# Altium integrated library TI_Logic_Specialty_Logic.IntLib: 2504 symbols (part 10 of 81)
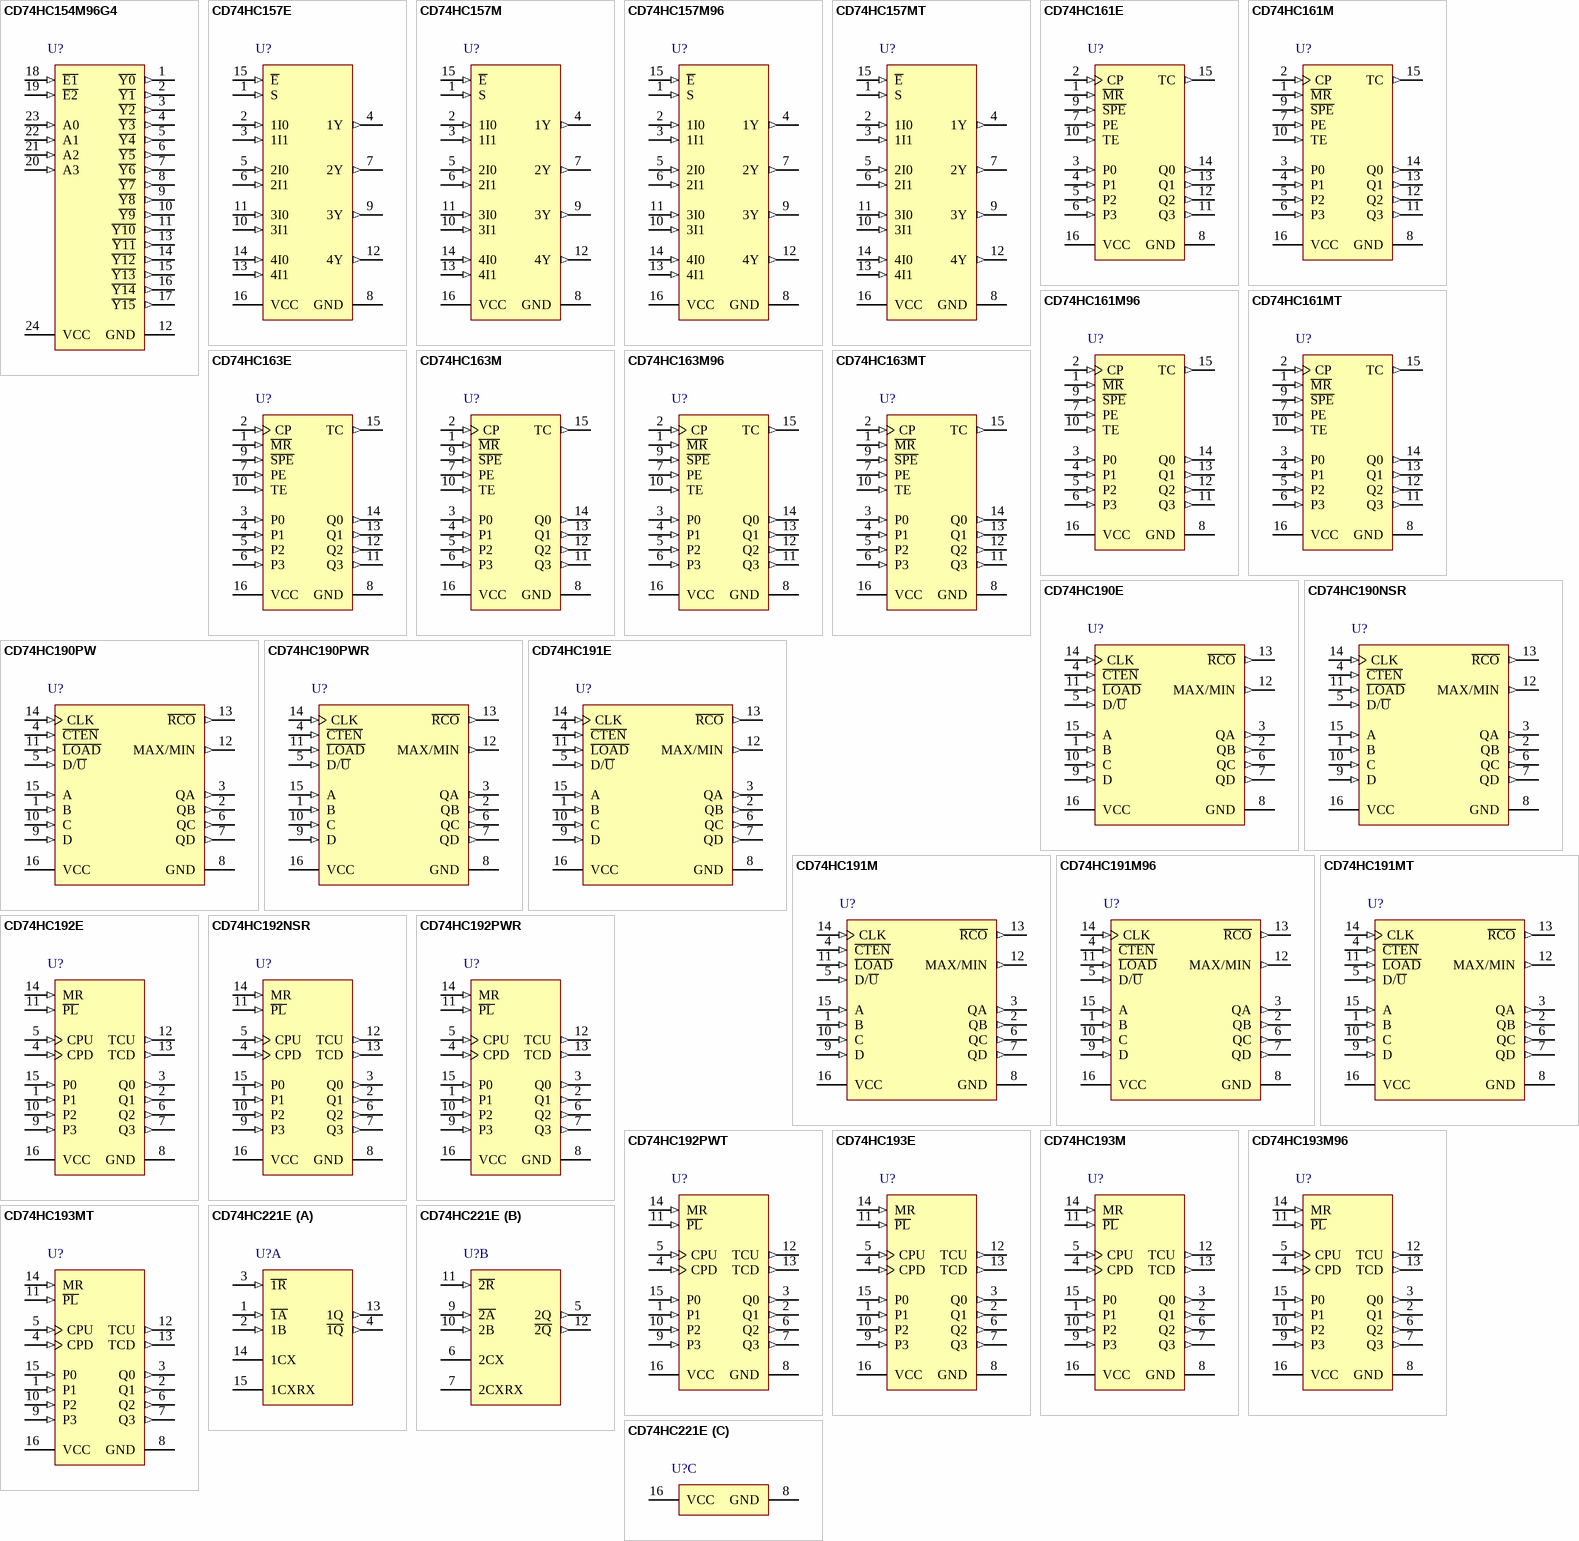
[diagram p113: symbols CD74HC154M96G4 to CD74HC221E]

## CD74HC193M
designator U?
High Speed CMOS Logic Presettable Synchronous 4-Bit Binary Up/Down Counter with Asynchronous Reset, D0016A, TUBE; Generic Part Number: CD74HC193; Manufacturer: Texas Instruments; PartNumber: CD74HC193M; VCC(Min)(V): 2; VCC(Max)(V): 6; Inputs: 1; ICC @ Nom Voltage(Max)(mA): 0.08; Input Type: LVTTL/CMOS; Bits(#): 4; F @ Nom Voltage(Max)(Mhz): 28; Rating: Catalog; Technology Family: HC; Voltage(Nom)(V): 3.3,5; Schmitt Trigger: No; Output Drive (IOL/IOH)(Max)(mA): 5.2/-5.2; tpd @ Nom Voltage(Max)(ns): 46; DatasheetVersion: SCHS163F; PackageReference: D0016A; Supplier 1: Mouser; Supplier Part Number 1: 595-CD74HC193M; Supplier 2: Digi-Key; Supplier Part Number 2: 296-33043-5-ND; Output Type: CMOS; Function: Counter; Operating Temperature Range(C): -55 to 125; Type: Binary; Code_JEDEC: MS-012 variation AC; ComponentLink1Description: Manufacturer URL; ComponentLink1URL: http://www.ti.com/; ComponentLink2Description: Datasheet; ComponentLink2URL: http://www.ti.com/lit/ds/symlink/cd74hc193.pdf; ComponentLink3Description: Package Specification; ComponentLink3URL: http://www.ti.com/lit/ml/mpds178g/mpds178g.pdf
footprint D0016A_N (SOIC, 16-Leads, Body 10x4mm, Pitch 1.27mm, IPC Medium Density)
footprint D0016A_M (SOIC, 16-Leads, Body 10x4mm, Pitch 1.27mm, IPC Low Density)
footprint D0016A_L (SOIC, 16-Leads, Body 10x4mm, Pitch 1.27mm, IPC High Density)
pins: 1 P1 (in), 2 Q1 (out), 3 Q0 (out), 4 CPD (in), 5 CPU (in), 6 Q2 (out), 7 Q3 (out), 8 GND (power), 9 P3 (in), 10 P2 (in), 11 ~{PL} (in), 12 TCU (out), 13 TCD (out), 14 MR (in), 15 P0 (in), 16 VCC (power)

## CD74HC193M96
designator U?
High Speed CMOS Logic Presettable Synchronous 4-Bit Binary Up/Down Counter with Asynchronous Reset, D0016A, LARGE T&R; Generic Part Number: CD74HC193; Manufacturer: Texas Instruments; PartNumber: CD74HC193M96; VCC(Min)(V): 2; VCC(Max)(V): 6; Inputs: 1; ICC @ Nom Voltage(Max)(mA): 0.08; Input Type: LVTTL/CMOS; Bits(#): 4; F @ Nom Voltage(Max)(Mhz): 28; Rating: Catalog; Technology Family: HC; Voltage(Nom)(V): 3.3,5; Schmitt Trigger: No; Output Drive (IOL/IOH)(Max)(mA): 5.2/-5.2; tpd @ Nom Voltage(Max)(ns): 46; DatasheetVersion: SCHS163F; PackageReference: D0016A; Supplier 1: Mouser; Supplier Part Number 1: 595-CD74HC193M96; Supplier 2: Digi-Key; Supplier Part Number 2: CD74HC193M96-ND; Output Type: CMOS; Function: Counter; Operating Temperature Range(C): -55 to 125; Type: Binary; Code_JEDEC: MS-012 variation AC; ComponentLink1Description: Manufacturer URL; ComponentLink1URL: http://www.ti.com/; ComponentLink2Description: Datasheet; ComponentLink2URL: http://www.ti.com/lit/ds/symlink/cd74hc193.pdf; ComponentLink3Description: Package Specification; ComponentLink3URL: http://www.ti.com/lit/ml/mpds178g/mpds178g.pdf
footprint D0016A_N (SOIC, 16-Leads, Body 10x4mm, Pitch 1.27mm, IPC Medium Density)
footprint D0016A_M (SOIC, 16-Leads, Body 10x4mm, Pitch 1.27mm, IPC Low Density)
footprint D0016A_L (SOIC, 16-Leads, Body 10x4mm, Pitch 1.27mm, IPC High Density)
pins: 1 P1 (in), 2 Q1 (out), 3 Q0 (out), 4 CPD (in), 5 CPU (in), 6 Q2 (out), 7 Q3 (out), 8 GND (power), 9 P3 (in), 10 P2 (in), 11 ~{PL} (in), 12 TCU (out), 13 TCD (out), 14 MR (in), 15 P0 (in), 16 VCC (power)

## CD74HC193MT
designator U?
High Speed CMOS Logic Presettable Synchronous 4-Bit Binary Up/Down Counter with Asynchronous Reset, D0016A, SMALL T&R; Generic Part Number: CD74HC193; Manufacturer: Texas Instruments; PartNumber: CD74HC193MT; VCC(Min)(V): 2; VCC(Max)(V): 6; Inputs: 1; ICC @ Nom Voltage(Max)(mA): 0.08; Input Type: LVTTL/CMOS; Bits(#): 4; F @ Nom Voltage(Max)(Mhz): 28; Rating: Catalog; Technology Family: HC; Voltage(Nom)(V): 3.3,5; Schmitt Trigger: No; Output Drive (IOL/IOH)(Max)(mA): 5.2/-5.2; tpd @ Nom Voltage(Max)(ns): 46; DatasheetVersion: SCHS163F; PackageReference: D0016A; Supplier 1: Mouser; Supplier Part Number 1: 595-CD74HC193MT; Supplier 2: Digi-Key; Supplier Part Number 2: CD74HC193MT-ND; Output Type: CMOS; Function: Counter; Operating Temperature Range(C): -55 to 125; Type: Binary; Code_JEDEC: MS-012 variation AC; ComponentLink1Description: Manufacturer URL; ComponentLink1URL: http://www.ti.com/; ComponentLink2Description: Datasheet; ComponentLink2URL: http://www.ti.com/lit/ds/symlink/cd74hc193.pdf; ComponentLink3Description: Package Specification; ComponentLink3URL: http://www.ti.com/lit/ml/mpds178g/mpds178g.pdf
footprint D0016A_N (SOIC, 16-Leads, Body 10x4mm, Pitch 1.27mm, IPC Medium Density)
footprint D0016A_M (SOIC, 16-Leads, Body 10x4mm, Pitch 1.27mm, IPC Low Density)
footprint D0016A_L (SOIC, 16-Leads, Body 10x4mm, Pitch 1.27mm, IPC High Density)
pins: 1 P1 (in), 2 Q1 (out), 3 Q0 (out), 4 CPD (in), 5 CPU (in), 6 Q2 (out), 7 Q3 (out), 8 GND (power), 9 P3 (in), 10 P2 (in), 11 ~{PL} (in), 12 TCU (out), 13 TCD (out), 14 MR (in), 15 P0 (in), 16 VCC (power)

## CD74HC221E
designator U?
High Speed CMOS Logic Dual Monostable Multivibrators with Reset, N0016A, TUBE; Generic Part Number: CD74HC221; Manufacturer: Texas Instruments; PartNumber: CD74HC221E; VCC(Min)(V): 2; VCC(Max)(V): 6; ICC @ Nom Voltage(Max)(mA): 0.08; Input Type: LVTTL/CMOS; F @ Nom Voltage(Max)(Mhz): 70; Rating: Catalog; Technology Family: HC; Voltage(Nom)(V): 3.3,5; Schmitt Trigger: No; Output Drive (IOL/IOH)(Max)(mA): 5.2/-5.2; tpd @ Nom Voltage(Max)(ns): 45; DatasheetVersion: SCHS166F; PackageReference: N0016A; Supplier 1: Mouser; Supplier Part Number 1: 595-CD74HC221E; Supplier 2: Digi-Key; Supplier Part Number 2: 296-9187-5-ND; Output Type: CMOS; Bits(#): 2; Operating Temperature Range(C): -55 to 125; Code_JEDEC: MS-001; ComponentLink1Description: Manufacturer URL; ComponentLink1URL: http://www.ti.com/; ComponentLink2Description: Datasheet; ComponentLink2URL: http://www.ti.com/lit/ds/symlink/cd74hc221.pdf; ComponentLink3Description: Package Specification; ComponentLink3URL: http://www.ti.com/lit/ml/mpdi002c/mpdi002c.pdf
footprint N0016A (DIP, 16-Leads, Body 19.7x6.6mm, Pitch 2.54mm)
part A pins: 1 ~{1A} (in), 2 1B (in), 3 ~{1R} (in), 4 ~{1Q} (out), 13 1Q (out), 14 1CX, 15 1CXRX
part B pins: 5 2Q (out), 6 2CX, 7 2CXRX, 9 ~{2A} (in), 10 2B (in), 11 ~{2R} (in), 12 ~{2Q} (out)
part C pins: 8 GND (power), 16 VCC (power)

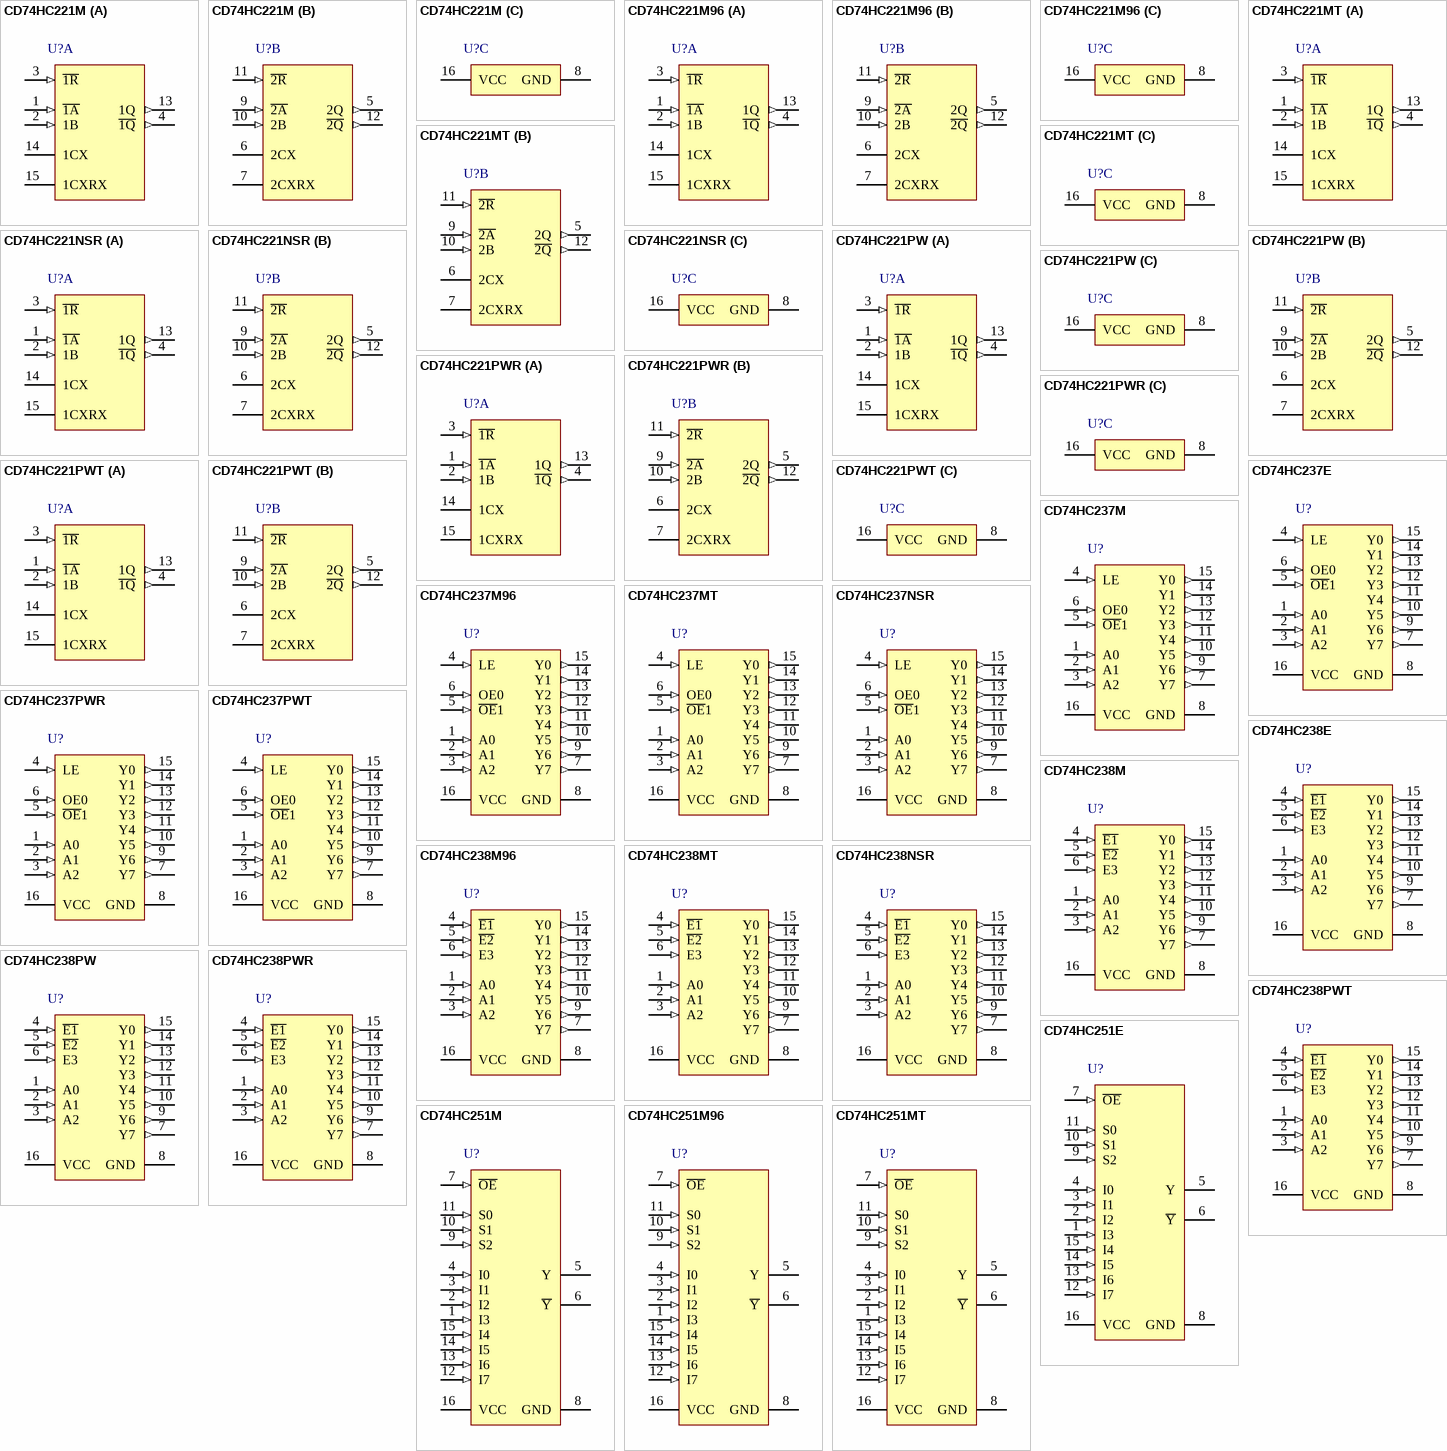
[diagram p12: symbols CD74HC221M to CD74HC251MT]

## CD74HC221M
designator U?
High Speed CMOS Logic Dual Monostable Multivibrators with Reset, D0016A, TUBE; Generic Part Number: CD74HC221; Manufacturer: Texas Instruments; PartNumber: CD74HC221M; VCC(Min)(V): 2; VCC(Max)(V): 6; ICC @ Nom Voltage(Max)(mA): 0.08; Input Type: LVTTL/CMOS; F @ Nom Voltage(Max)(Mhz): 70; Rating: Catalog; Technology Family: HC; Voltage(Nom)(V): 3.3,5; Schmitt Trigger: No; Output Drive (IOL/IOH)(Max)(mA): 5.2/-5.2; tpd @ Nom Voltage(Max)(ns): 45; DatasheetVersion: SCHS166F; PackageReference: D0016A; Supplier 1: Mouser; Supplier Part Number 1: 595-CD74HC221M; Supplier 2: Digi-Key; Supplier Part Number 2: 296-25981-5-ND; Output Type: CMOS; Bits(#): 2; Operating Temperature Range(C): -55 to 125; Code_JEDEC: MS-012 variation AC; ComponentLink1Description: Manufacturer URL; ComponentLink1URL: http://www.ti.com/; ComponentLink2Description: Datasheet; ComponentLink2URL: http://www.ti.com/lit/ds/symlink/cd74hc221.pdf; ComponentLink3Description: Package Specification; ComponentLink3URL: http://www.ti.com/lit/ml/mpds178g/mpds178g.pdf
footprint D0016A_N (SOIC, 16-Leads, Body 10x4mm, Pitch 1.27mm, IPC Medium Density)
footprint D0016A_M (SOIC, 16-Leads, Body 10x4mm, Pitch 1.27mm, IPC Low Density)
footprint D0016A_L (SOIC, 16-Leads, Body 10x4mm, Pitch 1.27mm, IPC High Density)
part A pins: 1 ~{1A} (in), 2 1B (in), 3 ~{1R} (in), 4 ~{1Q} (out), 13 1Q (out), 14 1CX, 15 1CXRX
part B pins: 5 2Q (out), 6 2CX, 7 2CXRX, 9 ~{2A} (in), 10 2B (in), 11 ~{2R} (in), 12 ~{2Q} (out)
part C pins: 8 GND (power), 16 VCC (power)

## CD74HC221M96
designator U?
High Speed CMOS Logic Dual Monostable Multivibrators with Reset, D0016A, LARGE T&R; Generic Part Number: CD74HC221; Manufacturer: Texas Instruments; PartNumber: CD74HC221M96; VCC(Min)(V): 2; VCC(Max)(V): 6; ICC @ Nom Voltage(Max)(mA): 0.08; Input Type: LVTTL/CMOS; F @ Nom Voltage(Max)(Mhz): 70; Rating: Catalog; Technology Family: HC; Voltage(Nom)(V): 3.3,5; Schmitt Trigger: No; Output Drive (IOL/IOH)(Max)(mA): 5.2/-5.2; tpd @ Nom Voltage(Max)(ns): 45; DatasheetVersion: SCHS166F; PackageReference: D0016A; Supplier 1: Mouser; Supplier Part Number 1: 595-CD74HC221M96; Supplier 2: Digi-Key; Supplier Part Number 2: 296-17789-2-ND; Supplier 3: Digi-Key; Supplier Part Number 3: 296-17789-1-ND; Supplier 4: Digi-Key; Supplier Part Number 4: 296-17789-6-ND; Output Type: CMOS; Bits(#): 2; Operating Temperature Range(C): -55 to 125; Code_JEDEC: MS-012 variation AC; ComponentLink1Description: Manufacturer URL; ComponentLink1URL: http://www.ti.com/; ComponentLink2Description: Datasheet; ComponentLink2URL: http://www.ti.com/lit/ds/symlink/cd74hc221.pdf; ComponentLink3Description: Package Specification; ComponentLink3URL: http://www.ti.com/lit/ml/mpds178g/mpds178g.pdf
footprint D0016A_N (SOIC, 16-Leads, Body 10x4mm, Pitch 1.27mm, IPC Medium Density)
footprint D0016A_M (SOIC, 16-Leads, Body 10x4mm, Pitch 1.27mm, IPC Low Density)
footprint D0016A_L (SOIC, 16-Leads, Body 10x4mm, Pitch 1.27mm, IPC High Density)
part A pins: 1 ~{1A} (in), 2 1B (in), 3 ~{1R} (in), 4 ~{1Q} (out), 13 1Q (out), 14 1CX, 15 1CXRX
part B pins: 5 2Q (out), 6 2CX, 7 2CXRX, 9 ~{2A} (in), 10 2B (in), 11 ~{2R} (in), 12 ~{2Q} (out)
part C pins: 8 GND (power), 16 VCC (power)

## CD74HC221MT
designator U?
High Speed CMOS Logic Dual Monostable Multivibrators with Reset, D0016A, SMALL T&R; Generic Part Number: CD74HC221; Manufacturer: Texas Instruments; PartNumber: CD74HC221MT; VCC(Min)(V): 2; VCC(Max)(V): 6; ICC @ Nom Voltage(Max)(mA): 0.08; Input Type: LVTTL/CMOS; F @ Nom Voltage(Max)(Mhz): 70; Rating: Catalog; Technology Family: HC; Voltage(Nom)(V): 3.3,5; Schmitt Trigger: No; Output Drive (IOL/IOH)(Max)(mA): 5.2/-5.2; tpd @ Nom Voltage(Max)(ns): 45; DatasheetVersion: SCHS166F; PackageReference: D0016A; Supplier 1: Mouser; Supplier Part Number 1: 595-CD74HC221MT; Supplier 2: Digi-Key; Supplier Part Number 2: 296-32061-2-ND; Supplier 3: Digi-Key; Supplier Part Number 3: 296-32061-1-ND; Supplier 4: Digi-Key; Supplier Part Number 4: 296-32061-6-ND; Output Type: CMOS; Bits(#): 2; Operating Temperature Range(C): -55 to 125; Code_JEDEC: MS-012 variation AC; ComponentLink1Description: Manufacturer URL; ComponentLink1URL: http://www.ti.com/; ComponentLink2Description: Datasheet; ComponentLink2URL: http://www.ti.com/lit/ds/symlink/cd74hc221.pdf; ComponentLink3Description: Package Specification; ComponentLink3URL: http://www.ti.com/lit/ml/mpds178g/mpds178g.pdf
footprint D0016A_N (SOIC, 16-Leads, Body 10x4mm, Pitch 1.27mm, IPC Medium Density)
footprint D0016A_M (SOIC, 16-Leads, Body 10x4mm, Pitch 1.27mm, IPC Low Density)
footprint D0016A_L (SOIC, 16-Leads, Body 10x4mm, Pitch 1.27mm, IPC High Density)
part A pins: 1 ~{1A} (in), 2 1B (in), 3 ~{1R} (in), 4 ~{1Q} (out), 13 1Q (out), 14 1CX, 15 1CXRX
part B pins: 5 2Q (out), 6 2CX, 7 2CXRX, 9 ~{2A} (in), 10 2B (in), 11 ~{2R} (in), 12 ~{2Q} (out)
part C pins: 8 GND (power), 16 VCC (power)

## CD74HC221NSR
designator U?
High Speed CMOS Logic Dual Monostable Multivibrators with Reset, NS0016A, LARGE T&R; Generic Part Number: CD74HC221; Manufacturer: Texas Instruments; PartNumber: CD74HC221NSR; VCC(Min)(V): 2; VCC(Max)(V): 6; ICC @ Nom Voltage(Max)(mA): 0.08; Input Type: LVTTL/CMOS; F @ Nom Voltage(Max)(Mhz): 70; Rating: Catalog; Technology Family: HC; Voltage(Nom)(V): 3.3,5; Schmitt Trigger: No; Output Drive (IOL/IOH)(Max)(mA): 5.2/-5.2; tpd @ Nom Voltage(Max)(ns): 45; DatasheetVersion: SCHS166F; PackageReference: NS0016A; Supplier 1: Mouser; Supplier Part Number 1: 595-CD74HC221NSR; Supplier 2: Digi-Key; Supplier Part Number 2: 296-31575-2-ND; Supplier 3: Digi-Key; Supplier Part Number 3: 296-31575-1-ND; Supplier 4: Digi-Key; Supplier Part Number 4: 296-31575-6-ND; Output Type: CMOS; Bits(#): 2; Operating Temperature Range(C): -55 to 125; ComponentLink1Description: Manufacturer URL; ComponentLink1URL: http://www.ti.com/; ComponentLink2Description: Datasheet; ComponentLink2URL: http://www.ti.com/lit/ds/symlink/cd74hc221.pdf; ComponentLink3Description: Package Specification; ComponentLink3URL: http://www.ti.com/lit/ml/msop002a/msop002a.pdf
footprint NS0016A_N (SOIC,16-Leads,Body 10.5x5.6mm,Pitch 1.27mm,IPC Medium Density)
footprint NS0016A_M (SOIC,16-Leads,Body 10.5x5.6mm,Pitch 1.27mm,IPC Low Density)
footprint NS0016A_L (SOIC,16-Leads,Body 10.5x5.6mm,Pitch 1.27mm,IPC High Density)
part A pins: 1 ~{1A} (in), 2 1B (in), 3 ~{1R} (in), 4 ~{1Q} (out), 13 1Q (out), 14 1CX, 15 1CXRX
part B pins: 5 2Q (out), 6 2CX, 7 2CXRX, 9 ~{2A} (in), 10 2B (in), 11 ~{2R} (in), 12 ~{2Q} (out)
part C pins: 8 GND (power), 16 VCC (power)

## CD74HC221PW
designator U?
High Speed CMOS Logic Dual Monostable Multivibrators with Reset, PW0016A, TUBE; Generic Part Number: CD74HC221; Manufacturer: Texas Instruments; PartNumber: CD74HC221PW; VCC(Min)(V): 2; VCC(Max)(V): 6; ICC @ Nom Voltage(Max)(mA): 0.08; Input Type: LVTTL/CMOS; F @ Nom Voltage(Max)(Mhz): 70; Rating: Catalog; Technology Family: HC; Voltage(Nom)(V): 3.3,5; Schmitt Trigger: No; Output Drive (IOL/IOH)(Max)(mA): 5.2/-5.2; tpd @ Nom Voltage(Max)(ns): 45; DatasheetVersion: SCHS166F; PackageReference: PW0016A; Supplier 1: Mouser; Supplier Part Number 1: 595-CD74HC221PW; Supplier 2: Digi-Key; Supplier Part Number 2: 296-33049-5-ND; Output Type: CMOS; Bits(#): 2; Operating Temperature Range(C): -55 to 125; Code_JEDEC: MO-153; ComponentLink1Description: Manufacturer URL; ComponentLink1URL: http://www.ti.com/; ComponentLink2Description: Datasheet; ComponentLink2URL: http://www.ti.com/lit/ds/symlink/cd74hc221.pdf; ComponentLink3Description: Package Specification; ComponentLink3URL: http://www.ti.com/lit/ml/mpds361/mpds361.pdf
footprint PW0016A_N (SOP, 16-Leads, Body 5.1x4.5mm, Pitch 0.65mm, IPC Medium Density)
footprint PW0016A_M (SOP, 16-Leads, Body 5.1x4.5mm, Pitch 0.65mm, IPC Low Density)
footprint PW0016A_L (SOP, 16-Leads, Body 5.1x4.5mm, Pitch 0.65mm, IPC High Density)
part A pins: 1 ~{1A} (in), 2 1B (in), 3 ~{1R} (in), 4 ~{1Q} (out), 13 1Q (out), 14 1CX, 15 1CXRX
part B pins: 5 2Q (out), 6 2CX, 7 2CXRX, 9 ~{2A} (in), 10 2B (in), 11 ~{2R} (in), 12 ~{2Q} (out)
part C pins: 8 GND (power), 16 VCC (power)

## CD74HC221PWR
designator U?
High Speed CMOS Logic Dual Monostable Multivibrators with Reset, PW0016A, LARGE T&R; Generic Part Number: CD74HC221; Manufacturer: Texas Instruments; PartNumber: CD74HC221PWR; VCC(Min)(V): 2; VCC(Max)(V): 6; ICC @ Nom Voltage(Max)(mA): 0.08; Input Type: LVTTL/CMOS; F @ Nom Voltage(Max)(Mhz): 70; Rating: Catalog; Technology Family: HC; Voltage(Nom)(V): 3.3,5; Schmitt Trigger: No; Output Drive (IOL/IOH)(Max)(mA): 5.2/-5.2; tpd @ Nom Voltage(Max)(ns): 45; DatasheetVersion: SCHS166F; PackageReference: PW0016A; Supplier 1: Mouser; Supplier Part Number 1: 595-CD74HC221PWR; Supplier 2: Digi-Key; Supplier Part Number 2: 296-12796-2-ND; Supplier 3: Digi-Key; Supplier Part Number 3: 296-12796-1-ND; Supplier 4: Digi-Key; Supplier Part Number 4: 296-12796-6-ND; Output Type: CMOS; Bits(#): 2; Operating Temperature Range(C): -55 to 125; Code_JEDEC: MO-153; ComponentLink1Description: Manufacturer URL; ComponentLink1URL: http://www.ti.com/; ComponentLink2Description: Datasheet; ComponentLink2URL: http://www.ti.com/lit/ds/symlink/cd74hc221.pdf; ComponentLink3Description: Package Specification; ComponentLink3URL: http://www.ti.com/lit/ml/mpds361/mpds361.pdf
footprint PW0016A_N (SOP, 16-Leads, Body 5.1x4.5mm, Pitch 0.65mm, IPC Medium Density)
footprint PW0016A_M (SOP, 16-Leads, Body 5.1x4.5mm, Pitch 0.65mm, IPC Low Density)
footprint PW0016A_L (SOP, 16-Leads, Body 5.1x4.5mm, Pitch 0.65mm, IPC High Density)
part A pins: 1 ~{1A} (in), 2 1B (in), 3 ~{1R} (in), 4 ~{1Q} (out), 13 1Q (out), 14 1CX, 15 1CXRX
part B pins: 5 2Q (out), 6 2CX, 7 2CXRX, 9 ~{2A} (in), 10 2B (in), 11 ~{2R} (in), 12 ~{2Q} (out)
part C pins: 8 GND (power), 16 VCC (power)

## CD74HC221PWT
designator U?
High Speed CMOS Logic Dual Monostable Multivibrators with Reset, PW0016A, SMALL T&R; Generic Part Number: CD74HC221; Manufacturer: Texas Instruments; PartNumber: CD74HC221PWT; VCC(Min)(V): 2; VCC(Max)(V): 6; ICC @ Nom Voltage(Max)(mA): 0.08; Input Type: LVTTL/CMOS; F @ Nom Voltage(Max)(Mhz): 70; Rating: Catalog; Technology Family: HC; Voltage(Nom)(V): 3.3,5; Schmitt Trigger: No; Output Drive (IOL/IOH)(Max)(mA): 5.2/-5.2; tpd @ Nom Voltage(Max)(ns): 45; DatasheetVersion: SCHS166F; PackageReference: PW0016A; Supplier 1: Mouser; Supplier Part Number 1: 595-CD74HC221PWT; Supplier 2: Digi-Key; Supplier Part Number 2: 296-28645-2-ND; Supplier 3: Digi-Key; Supplier Part Number 3: 296-28645-1-ND; Supplier 4: Digi-Key; Supplier Part Number 4: 296-28645-6-ND; Output Type: CMOS; Bits(#): 2; Operating Temperature Range(C): -55 to 125; Code_JEDEC: MO-153; ComponentLink1Description: Manufacturer URL; ComponentLink1URL: http://www.ti.com/; ComponentLink2Description: Datasheet; ComponentLink2URL: http://www.ti.com/lit/ds/symlink/cd74hc221.pdf; ComponentLink3Description: Package Specification; ComponentLink3URL: http://www.ti.com/lit/ml/mpds361/mpds361.pdf
footprint PW0016A_N (SOP, 16-Leads, Body 5.1x4.5mm, Pitch 0.65mm, IPC Medium Density)
footprint PW0016A_M (SOP, 16-Leads, Body 5.1x4.5mm, Pitch 0.65mm, IPC Low Density)
footprint PW0016A_L (SOP, 16-Leads, Body 5.1x4.5mm, Pitch 0.65mm, IPC High Density)
part A pins: 1 ~{1A} (in), 2 1B (in), 3 ~{1R} (in), 4 ~{1Q} (out), 13 1Q (out), 14 1CX, 15 1CXRX
part B pins: 5 2Q (out), 6 2CX, 7 2CXRX, 9 ~{2A} (in), 10 2B (in), 11 ~{2R} (in), 12 ~{2Q} (out)
part C pins: 8 GND (power), 16 VCC (power)

## CD74HC237E
designator U?
High Speed CMOS Logic 3-to-8 Line Decoder Demutiplexer with Address Latches, N0016A, TUBE; Generic Part Number: CD74HC237; Manufacturer: Texas Instruments; PartNumber: CD74HC237E; VCC(Min)(V): 2; VCC(Max)(V): 6; Function: Decoder/Demultiplexer; ICC @ Nom Voltage(Max)(mA): 0.08; Input Type: LVTTL/CMOS; Bits(#): 8; F @ Nom Voltage(Max)(Mhz): 28; Configuration: 3：8; Channels(#): 1; Rating: Catalog; Technology Family: HC; Voltage(Nom)(V): 3.3,5; Schmitt Trigger: No; Output Drive (IOL/IOH)(Max)(mA): 5.2/-5.2; tpd @ Nom Voltage(Max)(ns): 36; DatasheetVersion: SCHS146F; PackageReference: N0016A; Supplier 1: Mouser; Supplier Part Number 1: 595-CD74HC237E; Supplier 2: Digi-Key; Supplier Part Number 2: CD74HC237E-ND; Output Type: CMOS; Operating Temperature Range(C): -55 to 125; Type: Standard; Code_JEDEC: MS-001; ComponentLink1Description: Manufacturer URL; ComponentLink1URL: http://www.ti.com/; ComponentLink2Description: Datasheet; ComponentLink2URL: http://www.ti.com/lit/ds/symlink/cd74hc237.pdf; ComponentLink3Description: Package Specification; ComponentLink3URL: http://www.ti.com/lit/ml/mpdi002c/mpdi002c.pdf
footprint N0016A (DIP, 16-Leads, Body 19.7x6.6mm, Pitch 2.54mm)
pins: 1 A0 (in), 2 A1 (in), 3 A2 (in), 4 LE (in), 5 ~{OE}1 (in), 6 OE0 (in), 7 Y7 (out), 8 GND (power), 9 Y6 (out), 10 Y5 (out), 11 Y4 (out), 12 Y3 (out), 13 Y2 (out), 14 Y1 (out), 15 Y0 (out), 16 VCC (power)

## CD74HC237M
designator U?
High Speed CMOS Logic 3-to-8 Line Decoder Demutiplexer with Address Latches, D0016A, TUBE; Generic Part Number: CD74HC237; Manufacturer: Texas Instruments; PartNumber: CD74HC237M; VCC(Min)(V): 2; VCC(Max)(V): 6; Function: Decoder/Demultiplexer; ICC @ Nom Voltage(Max)(mA): 0.08; Input Type: LVTTL/CMOS; Bits(#): 8; F @ Nom Voltage(Max)(Mhz): 28; Configuration: 3：8; Channels(#): 1; Rating: Catalog; Technology Family: HC; Voltage(Nom)(V): 3.3,5; Schmitt Trigger: No; Output Drive (IOL/IOH)(Max)(mA): 5.2/-5.2; tpd @ Nom Voltage(Max)(ns): 36; DatasheetVersion: SCHS146F; PackageReference: D0016A; Supplier 1: Mouser; Supplier Part Number 1: 595-CD74HC237M; Supplier 2: Digi-Key; Supplier Part Number 2: 296-25982-5-ND; Output Type: CMOS; Operating Temperature Range(C): -55 to 125; Type: Standard; Code_JEDEC: MS-012 variation AC; ComponentLink1Description: Manufacturer URL; ComponentLink1URL: http://www.ti.com/; ComponentLink2Description: Datasheet; ComponentLink2URL: http://www.ti.com/lit/ds/symlink/cd74hc237.pdf; ComponentLink3Description: Package Specification; ComponentLink3URL: http://www.ti.com/lit/ml/mpds178g/mpds178g.pdf
footprint D0016A_N (SOIC, 16-Leads, Body 10x4mm, Pitch 1.27mm, IPC Medium Density)
footprint D0016A_M (SOIC, 16-Leads, Body 10x4mm, Pitch 1.27mm, IPC Low Density)
footprint D0016A_L (SOIC, 16-Leads, Body 10x4mm, Pitch 1.27mm, IPC High Density)
pins: 1 A0 (in), 2 A1 (in), 3 A2 (in), 4 LE (in), 5 ~{OE}1 (in), 6 OE0 (in), 7 Y7 (out), 8 GND (power), 9 Y6 (out), 10 Y5 (out), 11 Y4 (out), 12 Y3 (out), 13 Y2 (out), 14 Y1 (out), 15 Y0 (out), 16 VCC (power)

## CD74HC237M96
designator U?
High Speed CMOS Logic 3-to-8 Line Decoder Demutiplexer with Address Latches, D0016A, LARGE T&R; Generic Part Number: CD74HC237; Manufacturer: Texas Instruments; PartNumber: CD74HC237M96; VCC(Min)(V): 2; VCC(Max)(V): 6; Function: Decoder/Demultiplexer; ICC @ Nom Voltage(Max)(mA): 0.08; Input Type: LVTTL/CMOS; Bits(#): 8; F @ Nom Voltage(Max)(Mhz): 28; Configuration: 3：8; Channels(#): 1; Rating: Catalog; Technology Family: HC; Voltage(Nom)(V): 3.3,5; Schmitt Trigger: No; Output Drive (IOL/IOH)(Max)(mA): 5.2/-5.2; tpd @ Nom Voltage(Max)(ns): 36; DatasheetVersion: SCHS146F; PackageReference: D0016A; Supplier 1: Mouser; Supplier Part Number 1: 595-CD74HC237M96; Supplier 2: Digi-Key; Supplier Part Number 2: 296-12797-2-ND; Supplier 3: Digi-Key; Supplier Part Number 3: 296-12797-1-ND; Supplier 4: Digi-Key; Supplier Part Number 4: 296-12797-6-ND; Output Type: CMOS; Operating Temperature Range(C): -55 to 125; Type: Standard; Code_JEDEC: MS-012 variation AC; ComponentLink1Description: Manufacturer URL; ComponentLink1URL: http://www.ti.com/; ComponentLink2Description: Datasheet; ComponentLink2URL: http://www.ti.com/lit/ds/symlink/cd74hc237.pdf; ComponentLink3Description: Package Specification; ComponentLink3URL: http://www.ti.com/lit/ml/mpds178g/mpds178g.pdf
footprint D0016A_N (SOIC, 16-Leads, Body 10x4mm, Pitch 1.27mm, IPC Medium Density)
footprint D0016A_M (SOIC, 16-Leads, Body 10x4mm, Pitch 1.27mm, IPC Low Density)
footprint D0016A_L (SOIC, 16-Leads, Body 10x4mm, Pitch 1.27mm, IPC High Density)
pins: 1 A0 (in), 2 A1 (in), 3 A2 (in), 4 LE (in), 5 ~{OE}1 (in), 6 OE0 (in), 7 Y7 (out), 8 GND (power), 9 Y6 (out), 10 Y5 (out), 11 Y4 (out), 12 Y3 (out), 13 Y2 (out), 14 Y1 (out), 15 Y0 (out), 16 VCC (power)

## CD74HC237MT
designator U?
High Speed CMOS Logic 3-to-8 Line Decoder Demutiplexer with Address Latches, D0016A, SMALL T&R; Generic Part Number: CD74HC237; Manufacturer: Texas Instruments; PartNumber: CD74HC237MT; VCC(Min)(V): 2; VCC(Max)(V): 6; Function: Decoder/Demultiplexer; ICC @ Nom Voltage(Max)(mA): 0.08; Input Type: LVTTL/CMOS; Bits(#): 8; F @ Nom Voltage(Max)(Mhz): 28; Configuration: 3：8; Channels(#): 1; Rating: Catalog; Technology Family: HC; Voltage(Nom)(V): 3.3,5; Schmitt Trigger: No; Output Drive (IOL/IOH)(Max)(mA): 5.2/-5.2; tpd @ Nom Voltage(Max)(ns): 36; DatasheetVersion: SCHS146F; PackageReference: D0016A; Supplier 1: Mouser; Supplier Part Number 1: 595-CD74HC237MT; Supplier 2: Digi-Key; Supplier Part Number 2: CD74HC237MT-ND; Output Type: CMOS; Operating Temperature Range(C): -55 to 125; Type: Standard; Code_JEDEC: MS-012 variation AC; ComponentLink1Description: Manufacturer URL; ComponentLink1URL: http://www.ti.com/; ComponentLink2Description: Datasheet; ComponentLink2URL: http://www.ti.com/lit/ds/symlink/cd74hc237.pdf; ComponentLink3Description: Package Specification; ComponentLink3URL: http://www.ti.com/lit/ml/mpds178g/mpds178g.pdf
footprint D0016A_N (SOIC, 16-Leads, Body 10x4mm, Pitch 1.27mm, IPC Medium Density)
footprint D0016A_M (SOIC, 16-Leads, Body 10x4mm, Pitch 1.27mm, IPC Low Density)
footprint D0016A_L (SOIC, 16-Leads, Body 10x4mm, Pitch 1.27mm, IPC High Density)
pins: 1 A0 (in), 2 A1 (in), 3 A2 (in), 4 LE (in), 5 ~{OE}1 (in), 6 OE0 (in), 7 Y7 (out), 8 GND (power), 9 Y6 (out), 10 Y5 (out), 11 Y4 (out), 12 Y3 (out), 13 Y2 (out), 14 Y1 (out), 15 Y0 (out), 16 VCC (power)

## CD74HC237NSR
designator U?
High Speed CMOS Logic 3-to-8 Line Decoder Demutiplexer with Address Latches, NS0016A, LARGE T&R; Generic Part Number: CD74HC237; Manufacturer: Texas Instruments; PartNumber: CD74HC237NSR; VCC(Min)(V): 2; VCC(Max)(V): 6; Function: Decoder/Demultiplexer; ICC @ Nom Voltage(Max)(mA): 0.08; Input Type: LVTTL/CMOS; Bits(#): 8; F @ Nom Voltage(Max)(Mhz): 28; Configuration: 3：8; Channels(#): 1; Rating: Catalog; Technology Family: HC; Voltage(Nom)(V): 3.3,5; Schmitt Trigger: No; Output Drive (IOL/IOH)(Max)(mA): 5.2/-5.2; tpd @ Nom Voltage(Max)(ns): 36; DatasheetVersion: SCHS146F; PackageReference: NS0016A; Supplier 1: Mouser; Supplier Part Number 1: 595-CD74HC237NSR; Supplier 2: Digi-Key; Supplier Part Number 2: 296-28791-2-ND; Supplier 3: Digi-Key; Supplier Part Number 3: 296-28791-1-ND; Supplier 4: Digi-Key; Supplier Part Number 4: 296-28791-6-ND; Output Type: CMOS; Operating Temperature Range(C): -55 to 125; Type: Standard; ComponentLink1Description: Manufacturer URL; ComponentLink1URL: http://www.ti.com/; ComponentLink2Description: Datasheet; ComponentLink2URL: http://www.ti.com/lit/ds/symlink/cd74hc237.pdf; ComponentLink3Description: Package Specification; ComponentLink3URL: http://www.ti.com/lit/ml/msop002a/msop002a.pdf
footprint NS0016A_N (SOIC,16-Leads,Body 10.5x5.6mm,Pitch 1.27mm,IPC Medium Density)
footprint NS0016A_M (SOIC,16-Leads,Body 10.5x5.6mm,Pitch 1.27mm,IPC Low Density)
footprint NS0016A_L (SOIC,16-Leads,Body 10.5x5.6mm,Pitch 1.27mm,IPC High Density)
pins: 1 A0 (in), 2 A1 (in), 3 A2 (in), 4 LE (in), 5 ~{OE}1 (in), 6 OE0 (in), 7 Y7 (out), 8 GND (power), 9 Y6 (out), 10 Y5 (out), 11 Y4 (out), 12 Y3 (out), 13 Y2 (out), 14 Y1 (out), 15 Y0 (out), 16 VCC (power)

## CD74HC237PWR
designator U?
High Speed CMOS Logic 3-to-8 Line Decoder Demutiplexer with Address Latches, PW0016A, LARGE T&R; Generic Part Number: CD74HC237; Manufacturer: Texas Instruments; PartNumber: CD74HC237PWR; VCC(Min)(V): 2; VCC(Max)(V): 6; Function: Decoder/Demultiplexer; ICC @ Nom Voltage(Max)(mA): 0.08; Input Type: LVTTL/CMOS; Bits(#): 8; F @ Nom Voltage(Max)(Mhz): 28; Configuration: 3：8; Channels(#): 1; Rating: Catalog; Technology Family: HC; Voltage(Nom)(V): 3.3,5; Schmitt Trigger: No; Output Drive (IOL/IOH)(Max)(mA): 5.2/-5.2; tpd @ Nom Voltage(Max)(ns): 36; DatasheetVersion: SCHS146F; PackageReference: PW0016A; Supplier 1: Mouser; Supplier Part Number 1: 595-CD74HC237PWR; Supplier 2: Digi-Key; Supplier Part Number 2: 296-13813-2-ND; Supplier 3: Digi-Key; Supplier Part Number 3: 296-13813-1-ND; Supplier 4: Digi-Key; Supplier Part Number 4: 296-13813-6-ND; Output Type: CMOS; Operating Temperature Range(C): -55 to 125; Type: Standard; Code_JEDEC: MO-153; ComponentLink1Description: Manufacturer URL; ComponentLink1URL: http://www.ti.com/; ComponentLink2Description: Datasheet; ComponentLink2URL: http://www.ti.com/lit/ds/symlink/cd74hc237.pdf; ComponentLink3Description: Package Specification; ComponentLink3URL: http://www.ti.com/lit/ml/mpds361/mpds361.pdf
footprint PW0016A_N (SOP, 16-Leads, Body 5.1x4.5mm, Pitch 0.65mm, IPC Medium Density)
footprint PW0016A_M (SOP, 16-Leads, Body 5.1x4.5mm, Pitch 0.65mm, IPC Low Density)
footprint PW0016A_L (SOP, 16-Leads, Body 5.1x4.5mm, Pitch 0.65mm, IPC High Density)
pins: 1 A0 (in), 2 A1 (in), 3 A2 (in), 4 LE (in), 5 ~{OE}1 (in), 6 OE0 (in), 7 Y7 (out), 8 GND (power), 9 Y6 (out), 10 Y5 (out), 11 Y4 (out), 12 Y3 (out), 13 Y2 (out), 14 Y1 (out), 15 Y0 (out), 16 VCC (power)

## CD74HC237PWT
designator U?
High Speed CMOS Logic 3-to-8 Line Decoder Demutiplexer with Address Latches, PW0016A, SMALL T&R; Generic Part Number: CD74HC237; Manufacturer: Texas Instruments; PartNumber: CD74HC237PWT; VCC(Min)(V): 2; VCC(Max)(V): 6; Function: Decoder/Demultiplexer; ICC @ Nom Voltage(Max)(mA): 0.08; Input Type: LVTTL/CMOS; Bits(#): 8; F @ Nom Voltage(Max)(Mhz): 28; Configuration: 3：8; Channels(#): 1; Rating: Catalog; Technology Family: HC; Voltage(Nom)(V): 3.3,5; Schmitt Trigger: No; Output Drive (IOL/IOH)(Max)(mA): 5.2/-5.2; tpd @ Nom Voltage(Max)(ns): 36; DatasheetVersion: SCHS146F; PackageReference: PW0016A; Supplier 1: Mouser; Supplier Part Number 1: 595-CD74HC237PWT; Supplier 2: Digi-Key; Supplier Part Number 2: CD74HC237PWT-ND; Output Type: CMOS; Operating Temperature Range(C): -55 to 125; Type: Standard; Code_JEDEC: MO-153; ComponentLink1Description: Manufacturer URL; ComponentLink1URL: http://www.ti.com/; ComponentLink2Description: Datasheet; ComponentLink2URL: http://www.ti.com/lit/ds/symlink/cd74hc237.pdf; ComponentLink3Description: Package Specification; ComponentLink3URL: http://www.ti.com/lit/ml/mpds361/mpds361.pdf
footprint PW0016A_N (SOP, 16-Leads, Body 5.1x4.5mm, Pitch 0.65mm, IPC Medium Density)
footprint PW0016A_M (SOP, 16-Leads, Body 5.1x4.5mm, Pitch 0.65mm, IPC Low Density)
footprint PW0016A_L (SOP, 16-Leads, Body 5.1x4.5mm, Pitch 0.65mm, IPC High Density)
pins: 1 A0 (in), 2 A1 (in), 3 A2 (in), 4 LE (in), 5 ~{OE}1 (in), 6 OE0 (in), 7 Y7 (out), 8 GND (power), 9 Y6 (out), 10 Y5 (out), 11 Y4 (out), 12 Y3 (out), 13 Y2 (out), 14 Y1 (out), 15 Y0 (out), 16 VCC (power)

## CD74HC238E
designator U?
High Speed CMOS Logic 3-to-8 Line Decoder Demultiplexer Inverting and Non-Inverting, N0016A, TUBE; Generic Part Number: CD74HC238; Manufacturer: Texas Instruments; PartNumber: CD74HC238E; VCC(Min)(V): 2; VCC(Max)(V): 6; Function: Decoder/Demultiplexer; ICC @ Nom Voltage(Max)(mA): 0.08; Input Type: LVTTL/CMOS; Bits(#): 8; F @ Nom Voltage(Max)(Mhz): 28; Configuration: 3：8; Channels(#): 1; Rating: Catalog; Technology Family: HC; Voltage(Nom)(V): 3.3,5; Schmitt Trigger: No; Output Drive (IOL/IOH)(Max)(mA): 5.2/-5.2; tpd @ Nom Voltage(Max)(ns): 30; DatasheetVersion: SCHS147I; PackageReference: N0016A; Supplier 1: Mouser; Supplier Part Number 1: 595-CD74HC238E; Supplier 2: Digi-Key; Supplier Part Number 2: 296-25983-5-ND; Output Type: CMOS; Operating Temperature Range(C): -55 to 125; Type: Standard; Code_JEDEC: MS-001; ComponentLink1Description: Manufacturer URL; ComponentLink1URL: http://www.ti.com/; ComponentLink2Description: Datasheet; ComponentLink2URL: http://www.ti.com/lit/ds/symlink/cd74hc238.pdf; ComponentLink3Description: Package Specification; ComponentLink3URL: http://www.ti.com/lit/ml/mpdi002c/mpdi002c.pdf
footprint N0016A (DIP, 16-Leads, Body 19.7x6.6mm, Pitch 2.54mm)
pins: 1 A0 (in), 2 A1 (in), 3 A2 (in), 4 ~{E1} (in), 5 ~{E2} (in), 6 E3 (in), 7 Y7 (out), 8 GND (power), 9 Y6 (out), 10 Y5 (out), 11 Y4 (out), 12 Y3 (out), 13 Y2 (out), 14 Y1 (out), 15 Y0 (out), 16 VCC (power)

## CD74HC238M
designator U?
High Speed CMOS Logic 3-to-8 Line Decoder Demultiplexer Inverting and Non-Inverting, D0016A, TUBE; Generic Part Number: CD74HC238; Manufacturer: Texas Instruments; PartNumber: CD74HC238M; VCC(Min)(V): 2; VCC(Max)(V): 6; Function: Decoder/Demultiplexer; ICC @ Nom Voltage(Max)(mA): 0.08; Input Type: LVTTL/CMOS; Bits(#): 8; F @ Nom Voltage(Max)(Mhz): 28; Configuration: 3：8; Channels(#): 1; Rating: Catalog; Technology Family: HC; Voltage(Nom)(V): 3.3,5; Schmitt Trigger: No; Output Drive (IOL/IOH)(Max)(mA): 5.2/-5.2; tpd @ Nom Voltage(Max)(ns): 30; DatasheetVersion: SCHS147I; PackageReference: D0016A; Supplier 1: Mouser; Supplier Part Number 1: 595-CD74HC238M; Supplier 2: Digi-Key; Supplier Part Number 2: 296-9188-5-ND; Output Type: CMOS; Operating Temperature Range(C): -55 to 125; Type: Standard; Code_JEDEC: MS-012 variation AC; ComponentLink1Description: Manufacturer URL; ComponentLink1URL: http://www.ti.com/; ComponentLink2Description: Datasheet; ComponentLink2URL: http://www.ti.com/lit/ds/symlink/cd74hc238.pdf; ComponentLink3Description: Package Specification; ComponentLink3URL: http://www.ti.com/lit/ml/mpds178g/mpds178g.pdf
footprint D0016A_N (SOIC, 16-Leads, Body 10x4mm, Pitch 1.27mm, IPC Medium Density)
footprint D0016A_M (SOIC, 16-Leads, Body 10x4mm, Pitch 1.27mm, IPC Low Density)
footprint D0016A_L (SOIC, 16-Leads, Body 10x4mm, Pitch 1.27mm, IPC High Density)
pins: 1 A0 (in), 2 A1 (in), 3 A2 (in), 4 ~{E1} (in), 5 ~{E2} (in), 6 E3 (in), 7 Y7 (out), 8 GND (power), 9 Y6 (out), 10 Y5 (out), 11 Y4 (out), 12 Y3 (out), 13 Y2 (out), 14 Y1 (out), 15 Y0 (out), 16 VCC (power)

## CD74HC238M96
designator U?
High Speed CMOS Logic 3-to-8 Line Decoder Demultiplexer Inverting and Non-Inverting, D0016A, LARGE T&R; Generic Part Number: CD74HC238; Manufacturer: Texas Instruments; PartNumber: CD74HC238M96; VCC(Min)(V): 2; VCC(Max)(V): 6; Function: Decoder/Demultiplexer; ICC @ Nom Voltage(Max)(mA): 0.08; Input Type: LVTTL/CMOS; Bits(#): 8; F @ Nom Voltage(Max)(Mhz): 28; Configuration: 3：8; Channels(#): 1; Rating: Catalog; Technology Family: HC; Voltage(Nom)(V): 3.3,5; Schmitt Trigger: No; Output Drive (IOL/IOH)(Max)(mA): 5.2/-5.2; tpd @ Nom Voltage(Max)(ns): 30; DatasheetVersion: SCHS147I; PackageReference: D0016A; Supplier 1: Mouser; Supplier Part Number 1: 595-CD74HC238M96; Supplier 2: Digi-Key; Supplier Part Number 2: 296-24353-2-ND; Supplier 3: Digi-Key; Supplier Part Number 3: 296-24353-1-ND; Supplier 4: Digi-Key; Supplier Part Number 4: 296-24353-6-ND; Output Type: CMOS; Operating Temperature Range(C): -55 to 125; Type: Standard; Code_JEDEC: MS-012 variation AC; ComponentLink1Description: Manufacturer URL; ComponentLink1URL: http://www.ti.com/; ComponentLink2Description: Datasheet; ComponentLink2URL: http://www.ti.com/lit/ds/symlink/cd74hc238.pdf; ComponentLink3Description: Package Specification; ComponentLink3URL: http://www.ti.com/lit/ml/mpds178g/mpds178g.pdf
footprint D0016A_N (SOIC, 16-Leads, Body 10x4mm, Pitch 1.27mm, IPC Medium Density)
footprint D0016A_M (SOIC, 16-Leads, Body 10x4mm, Pitch 1.27mm, IPC Low Density)
footprint D0016A_L (SOIC, 16-Leads, Body 10x4mm, Pitch 1.27mm, IPC High Density)
pins: 1 A0 (in), 2 A1 (in), 3 A2 (in), 4 ~{E1} (in), 5 ~{E2} (in), 6 E3 (in), 7 Y7 (out), 8 GND (power), 9 Y6 (out), 10 Y5 (out), 11 Y4 (out), 12 Y3 (out), 13 Y2 (out), 14 Y1 (out), 15 Y0 (out), 16 VCC (power)

## CD74HC238MT
designator U?
High Speed CMOS Logic 3-to-8 Line Decoder Demultiplexer Inverting and Non-Inverting, D0016A, SMALL T&R; Generic Part Number: CD74HC238; Manufacturer: Texas Instruments; PartNumber: CD74HC238MT; VCC(Min)(V): 2; VCC(Max)(V): 6; Function: Decoder/Demultiplexer; ICC @ Nom Voltage(Max)(mA): 0.08; Input Type: LVTTL/CMOS; Bits(#): 8; F @ Nom Voltage(Max)(Mhz): 28; Configuration: 3：8; Channels(#): 1; Rating: Catalog; Technology Family: HC; Voltage(Nom)(V): 3.3,5; Schmitt Trigger: No; Output Drive (IOL/IOH)(Max)(mA): 5.2/-5.2; tpd @ Nom Voltage(Max)(ns): 30; DatasheetVersion: SCHS147I; PackageReference: D0016A; Supplier 1: Mouser; Supplier Part Number 1: 595-CD74HC238MT; Supplier 2: Digi-Key; Supplier Part Number 2: 296-32062-2-ND; Supplier 3: Digi-Key; Supplier Part Number 3: 296-32062-1-ND; Supplier 4: Digi-Key; Supplier Part Number 4: 296-32062-6-ND; Output Type: CMOS; Operating Temperature Range(C): -55 to 125; Type: Standard; Code_JEDEC: MS-012 variation AC; ComponentLink1Description: Manufacturer URL; ComponentLink1URL: http://www.ti.com/; ComponentLink2Description: Datasheet; ComponentLink2URL: http://www.ti.com/lit/ds/symlink/cd74hc238.pdf; ComponentLink3Description: Package Specification; ComponentLink3URL: http://www.ti.com/lit/ml/mpds178g/mpds178g.pdf
footprint D0016A_N (SOIC, 16-Leads, Body 10x4mm, Pitch 1.27mm, IPC Medium Density)
footprint D0016A_M (SOIC, 16-Leads, Body 10x4mm, Pitch 1.27mm, IPC Low Density)
footprint D0016A_L (SOIC, 16-Leads, Body 10x4mm, Pitch 1.27mm, IPC High Density)
pins: 1 A0 (in), 2 A1 (in), 3 A2 (in), 4 ~{E1} (in), 5 ~{E2} (in), 6 E3 (in), 7 Y7 (out), 8 GND (power), 9 Y6 (out), 10 Y5 (out), 11 Y4 (out), 12 Y3 (out), 13 Y2 (out), 14 Y1 (out), 15 Y0 (out), 16 VCC (power)

## CD74HC238NSR
designator U?
High Speed CMOS Logic 3-to-8 Line Decoder Demultiplexer Inverting and Non-Inverting, NS0016A, LARGE T&R; Generic Part Number: CD74HC238; Manufacturer: Texas Instruments; PartNumber: CD74HC238NSR; VCC(Min)(V): 2; VCC(Max)(V): 6; Function: Decoder/Demultiplexer; ICC @ Nom Voltage(Max)(mA): 0.08; Input Type: LVTTL/CMOS; Bits(#): 8; F @ Nom Voltage(Max)(Mhz): 28; Configuration: 3：8; Channels(#): 1; Rating: Catalog; Technology Family: HC; Voltage(Nom)(V): 3.3,5; Schmitt Trigger: No; Output Drive (IOL/IOH)(Max)(mA): 5.2/-5.2; tpd @ Nom Voltage(Max)(ns): 30; DatasheetVersion: SCHS147I; PackageReference: NS0016A; Supplier 1: Mouser; Supplier Part Number 1: 595-CD74HC238NSR; Supplier 2: Digi-Key; Supplier Part Number 2: 296-28935-2-ND; Supplier 3: Digi-Key; Supplier Part Number 3: 296-28935-1-ND; Supplier 4: Digi-Key; Supplier Part Number 4: 296-28935-6-ND; Output Type: CMOS; Operating Temperature Range(C): -55 to 125; Type: Standard; ComponentLink1Description: Manufacturer URL; ComponentLink1URL: http://www.ti.com/; ComponentLink2Description: Datasheet; ComponentLink2URL: http://www.ti.com/lit/ds/symlink/cd74hc238.pdf; ComponentLink3Description: Package Specification; ComponentLink3URL: http://www.ti.com/lit/ml/msop002a/msop002a.pdf
footprint NS0016A_N (SOIC,16-Leads,Body 10.5x5.6mm,Pitch 1.27mm,IPC Medium Density)
footprint NS0016A_M (SOIC,16-Leads,Body 10.5x5.6mm,Pitch 1.27mm,IPC Low Density)
footprint NS0016A_L (SOIC,16-Leads,Body 10.5x5.6mm,Pitch 1.27mm,IPC High Density)
pins: 1 A0 (in), 2 A1 (in), 3 A2 (in), 4 ~{E1} (in), 5 ~{E2} (in), 6 E3 (in), 7 Y7 (out), 8 GND (power), 9 Y6 (out), 10 Y5 (out), 11 Y4 (out), 12 Y3 (out), 13 Y2 (out), 14 Y1 (out), 15 Y0 (out), 16 VCC (power)

## CD74HC238PW
designator U?
High Speed CMOS Logic 3-to-8 Line Decoder Demultiplexer Inverting and Non-Inverting, PW0016A, TUBE; Generic Part Number: CD74HC238; Manufacturer: Texas Instruments; PartNumber: CD74HC238PW; VCC(Min)(V): 2; VCC(Max)(V): 6; Function: Decoder/Demultiplexer; ICC @ Nom Voltage(Max)(mA): 0.08; Input Type: LVTTL/CMOS; Bits(#): 8; F @ Nom Voltage(Max)(Mhz): 28; Configuration: 3：8; Channels(#): 1; Rating: Catalog; Technology Family: HC; Voltage(Nom)(V): 3.3,5; Schmitt Trigger: No; Output Drive (IOL/IOH)(Max)(mA): 5.2/-5.2; tpd @ Nom Voltage(Max)(ns): 30; DatasheetVersion: SCHS147I; PackageReference: PW0016A; Supplier 1: Mouser; Supplier Part Number 1: 595-CD74HC238PW; Supplier 2: Digi-Key; Supplier Part Number 2: 296-33050-5-ND; Output Type: CMOS; Operating Temperature Range(C): -55 to 125; Type: Standard; Code_JEDEC: MO-153; ComponentLink1Description: Manufacturer URL; ComponentLink1URL: http://www.ti.com/; ComponentLink2Description: Datasheet; ComponentLink2URL: http://www.ti.com/lit/ds/symlink/cd74hc238.pdf; ComponentLink3Description: Package Specification; ComponentLink3URL: http://www.ti.com/lit/ml/mpds361/mpds361.pdf
footprint PW0016A_N (SOP, 16-Leads, Body 5.1x4.5mm, Pitch 0.65mm, IPC Medium Density)
footprint PW0016A_M (SOP, 16-Leads, Body 5.1x4.5mm, Pitch 0.65mm, IPC Low Density)
footprint PW0016A_L (SOP, 16-Leads, Body 5.1x4.5mm, Pitch 0.65mm, IPC High Density)
pins: 1 A0 (in), 2 A1 (in), 3 A2 (in), 4 ~{E1} (in), 5 ~{E2} (in), 6 E3 (in), 7 Y7 (out), 8 GND (power), 9 Y6 (out), 10 Y5 (out), 11 Y4 (out), 12 Y3 (out), 13 Y2 (out), 14 Y1 (out), 15 Y0 (out), 16 VCC (power)

## CD74HC238PWR
designator U?
High Speed CMOS Logic 3-to-8 Line Decoder Demultiplexer Inverting and Non-Inverting, PW0016A, LARGE T&R; Generic Part Number: CD74HC238; Manufacturer: Texas Instruments; PartNumber: CD74HC238PWR; VCC(Min)(V): 2; VCC(Max)(V): 6; Function: Decoder/Demultiplexer; ICC @ Nom Voltage(Max)(mA): 0.08; Input Type: LVTTL/CMOS; Bits(#): 8; F @ Nom Voltage(Max)(Mhz): 28; Configuration: 3：8; Channels(#): 1; Rating: Catalog; Technology Family: HC; Voltage(Nom)(V): 3.3,5; Schmitt Trigger: No; Output Drive (IOL/IOH)(Max)(mA): 5.2/-5.2; tpd @ Nom Voltage(Max)(ns): 30; DatasheetVersion: SCHS147I; PackageReference: PW0016A; Supplier 1: Mouser; Supplier Part Number 1: 595-CD74HC238PWR; Supplier 2: Digi-Key; Supplier Part Number 2: 296-13814-2-ND; Supplier 3: Digi-Key; Supplier Part Number 3: 296-13814-1-ND; Supplier 4: Digi-Key; Supplier Part Number 4: 296-13814-6-ND; Output Type: CMOS; Operating Temperature Range(C): -55 to 125; Type: Standard; Code_JEDEC: MO-153; ComponentLink1Description: Manufacturer URL; ComponentLink1URL: http://www.ti.com/; ComponentLink2Description: Datasheet; ComponentLink2URL: http://www.ti.com/lit/ds/symlink/cd74hc238.pdf; ComponentLink3Description: Package Specification; ComponentLink3URL: http://www.ti.com/lit/ml/mpds361/mpds361.pdf
footprint PW0016A_N (SOP, 16-Leads, Body 5.1x4.5mm, Pitch 0.65mm, IPC Medium Density)
footprint PW0016A_M (SOP, 16-Leads, Body 5.1x4.5mm, Pitch 0.65mm, IPC Low Density)
footprint PW0016A_L (SOP, 16-Leads, Body 5.1x4.5mm, Pitch 0.65mm, IPC High Density)
pins: 1 A0 (in), 2 A1 (in), 3 A2 (in), 4 ~{E1} (in), 5 ~{E2} (in), 6 E3 (in), 7 Y7 (out), 8 GND (power), 9 Y6 (out), 10 Y5 (out), 11 Y4 (out), 12 Y3 (out), 13 Y2 (out), 14 Y1 (out), 15 Y0 (out), 16 VCC (power)

## CD74HC238PWT
designator U?
High Speed CMOS Logic 3-to-8 Line Decoder Demultiplexer Inverting and Non-Inverting, PW0016A, SMALL T&R; Generic Part Number: CD74HC238; Manufacturer: Texas Instruments; PartNumber: CD74HC238PWT; VCC(Min)(V): 2; VCC(Max)(V): 6; Function: Decoder/Demultiplexer; ICC @ Nom Voltage(Max)(mA): 0.08; Input Type: LVTTL/CMOS; Bits(#): 8; F @ Nom Voltage(Max)(Mhz): 28; Configuration: 3：8; Channels(#): 1; Rating: Catalog; Technology Family: HC; Voltage(Nom)(V): 3.3,5; Schmitt Trigger: No; Output Drive (IOL/IOH)(Max)(mA): 5.2/-5.2; tpd @ Nom Voltage(Max)(ns): 30; DatasheetVersion: SCHS147I; PackageReference: PW0016A; Supplier 1: Mouser; Supplier Part Number 1: 595-CD74HC238PWT; Supplier 2: Digi-Key; Supplier Part Number 2: CD74HC238PWT-ND; Output Type: CMOS; Operating Temperature Range(C): -55 to 125; Type: Standard; Code_JEDEC: MO-153; ComponentLink1Description: Manufacturer URL; ComponentLink1URL: http://www.ti.com/; ComponentLink2Description: Datasheet; ComponentLink2URL: http://www.ti.com/lit/ds/symlink/cd74hc238.pdf; ComponentLink3Description: Package Specification; ComponentLink3URL: http://www.ti.com/lit/ml/mpds361/mpds361.pdf
footprint PW0016A_N (SOP, 16-Leads, Body 5.1x4.5mm, Pitch 0.65mm, IPC Medium Density)
footprint PW0016A_M (SOP, 16-Leads, Body 5.1x4.5mm, Pitch 0.65mm, IPC Low Density)
footprint PW0016A_L (SOP, 16-Leads, Body 5.1x4.5mm, Pitch 0.65mm, IPC High Density)
pins: 1 A0 (in), 2 A1 (in), 3 A2 (in), 4 ~{E1} (in), 5 ~{E2} (in), 6 E3 (in), 7 Y7 (out), 8 GND (power), 9 Y6 (out), 10 Y5 (out), 11 Y4 (out), 12 Y3 (out), 13 Y2 (out), 14 Y1 (out), 15 Y0 (out), 16 VCC (power)

## CD74HC251E
designator U?
High Speed CMOS Logic 8-Input Multiplexer with 3-State Outputs, N0016A, TUBE; Generic Part Number: CD74HC251; Manufacturer: Texas Instruments; PartNumber: CD74HC251E; VCC(Min)(V): 2; VCC(Max)(V): 6; Function: Encoder/Multiplexer; ICC @ Nom Voltage(Max)(mA): 0.08; Input Type: LVTTL/CMOS; F @ Nom Voltage(Max)(Mhz): 28; Configuration: 8：1; Channels(#): 1; Rating: Catalog; Technology Family: HC; Voltage(Nom)(V): 3.3,5; Schmitt Trigger: No; Output Drive (IOL/IOH)(Max)(mA): 5.2/-5.2; tpd @ Nom Voltage(Max)(ns): 21; DatasheetVersion: SCHS169C; PackageReference: N0016A; Supplier 1: Mouser; Supplier Part Number 1: 595-CD74HC251E; Supplier 2: Digi-Key; Supplier Part Number 2: 296-33057-5-ND; Output Type: CMOS; Bits(#): 2; Operating Temperature Range(C): -55 to 125; Type: 3-State Output; Code_JEDEC: MS-001; ComponentLink1Description: Manufacturer URL; ComponentLink1URL: http://www.ti.com/; ComponentLink2Description: Datasheet; ComponentLink2URL: http://www.ti.com/lit/ds/symlink/cd74hc251.pdf; ComponentLink3Description: Package Specification; ComponentLink3URL: http://www.ti.com/lit/ml/mpdi002c/mpdi002c.pdf
footprint N0016A (DIP, 16-Leads, Body 19.7x6.6mm, Pitch 2.54mm)
pins: 1 I3 (in), 2 I2 (in), 3 I1 (in), 4 I0 (in), 5 Y (hiz), 6 ~{Y} (hiz), 7 ~{OE} (in), 8 GND (power), 9 S2 (in), 10 S1 (in), 11 S0 (in), 12 I7 (in), 13 I6 (in), 14 I5 (in), 15 I4 (in), 16 VCC (power)

## CD74HC251M
designator U?
High Speed CMOS Logic 8-Input Multiplexer with 3-State Outputs, D0016A, TUBE; Generic Part Number: CD74HC251; Manufacturer: Texas Instruments; PartNumber: CD74HC251M; VCC(Min)(V): 2; VCC(Max)(V): 6; Function: Encoder/Multiplexer; ICC @ Nom Voltage(Max)(mA): 0.08; Input Type: LVTTL/CMOS; F @ Nom Voltage(Max)(Mhz): 28; Configuration: 8：1; Channels(#): 1; Rating: Catalog; Technology Family: HC; Voltage(Nom)(V): 3.3,5; Schmitt Trigger: No; Output Drive (IOL/IOH)(Max)(mA): 5.2/-5.2; tpd @ Nom Voltage(Max)(ns): 21; DatasheetVersion: SCHS169C; PackageReference: D0016A; Supplier 1: Mouser; Supplier Part Number 1: 595-CD74HC251M; Supplier 2: Digi-Key; Supplier Part Number 2: 296-33058-5-ND; Output Type: CMOS; Bits(#): 2; Operating Temperature Range(C): -55 to 125; Type: 3-State Output; Code_JEDEC: MS-012 variation AC; ComponentLink1Description: Manufacturer URL; ComponentLink1URL: http://www.ti.com/; ComponentLink2Description: Datasheet; ComponentLink2URL: http://www.ti.com/lit/ds/symlink/cd74hc251.pdf; ComponentLink3Description: Package Specification; ComponentLink3URL: http://www.ti.com/lit/ml/mpds178g/mpds178g.pdf
footprint D0016A_N (SOIC, 16-Leads, Body 10x4mm, Pitch 1.27mm, IPC Medium Density)
footprint D0016A_M (SOIC, 16-Leads, Body 10x4mm, Pitch 1.27mm, IPC Low Density)
footprint D0016A_L (SOIC, 16-Leads, Body 10x4mm, Pitch 1.27mm, IPC High Density)
pins: 1 I3 (in), 2 I2 (in), 3 I1 (in), 4 I0 (in), 5 Y (hiz), 6 ~{Y} (hiz), 7 ~{OE} (in), 8 GND (power), 9 S2 (in), 10 S1 (in), 11 S0 (in), 12 I7 (in), 13 I6 (in), 14 I5 (in), 15 I4 (in), 16 VCC (power)

## CD74HC251M96
designator U?
High Speed CMOS Logic 8-Input Multiplexer with 3-State Outputs, D0016A, LARGE T&R; Generic Part Number: CD74HC251; Manufacturer: Texas Instruments; PartNumber: CD74HC251M96; VCC(Min)(V): 2; VCC(Max)(V): 6; Function: Encoder/Multiplexer; ICC @ Nom Voltage(Max)(mA): 0.08; Input Type: LVTTL/CMOS; F @ Nom Voltage(Max)(Mhz): 28; Configuration: 8：1; Channels(#): 1; Rating: Catalog; Technology Family: HC; Voltage(Nom)(V): 3.3,5; Schmitt Trigger: No; Output Drive (IOL/IOH)(Max)(mA): 5.2/-5.2; tpd @ Nom Voltage(Max)(ns): 21; DatasheetVersion: SCHS169C; PackageReference: D0016A; Supplier 1: Mouser; Supplier Part Number 1: 595-CD74HC251M96; Supplier 2: Digi-Key; Supplier Part Number 2: 296-41224-2-ND; Supplier 3: Digi-Key; Supplier Part Number 3: 296-41224-1-ND; Supplier 4: Digi-Key; Supplier Part Number 4: 296-41224-6-ND; Output Type: CMOS; Bits(#): 2; Operating Temperature Range(C): -55 to 125; Type: 3-State Output; Code_JEDEC: MS-012 variation AC; ComponentLink1Description: Manufacturer URL; ComponentLink1URL: http://www.ti.com/; ComponentLink2Description: Datasheet; ComponentLink2URL: http://www.ti.com/lit/ds/symlink/cd74hc251.pdf; ComponentLink3Description: Package Specification; ComponentLink3URL: http://www.ti.com/lit/ml/mpds178g/mpds178g.pdf
footprint D0016A_N (SOIC, 16-Leads, Body 10x4mm, Pitch 1.27mm, IPC Medium Density)
footprint D0016A_M (SOIC, 16-Leads, Body 10x4mm, Pitch 1.27mm, IPC Low Density)
footprint D0016A_L (SOIC, 16-Leads, Body 10x4mm, Pitch 1.27mm, IPC High Density)
pins: 1 I3 (in), 2 I2 (in), 3 I1 (in), 4 I0 (in), 5 Y (hiz), 6 ~{Y} (hiz), 7 ~{OE} (in), 8 GND (power), 9 S2 (in), 10 S1 (in), 11 S0 (in), 12 I7 (in), 13 I6 (in), 14 I5 (in), 15 I4 (in), 16 VCC (power)

## CD74HC251MT
designator U?
High Speed CMOS Logic 8-Input Multiplexer with 3-State Outputs, D0016A, SMALL T&R; Generic Part Number: CD74HC251; Manufacturer: Texas Instruments; PartNumber: CD74HC251MT; VCC(Min)(V): 2; VCC(Max)(V): 6; Function: Encoder/Multiplexer; ICC @ Nom Voltage(Max)(mA): 0.08; Input Type: LVTTL/CMOS; F @ Nom Voltage(Max)(Mhz): 28; Configuration: 8：1; Channels(#): 1; Rating: Catalog; Technology Family: HC; Voltage(Nom)(V): 3.3,5; Schmitt Trigger: No; Output Drive (IOL/IOH)(Max)(mA): 5.2/-5.2; tpd @ Nom Voltage(Max)(ns): 21; DatasheetVersion: SCHS169C; PackageReference: D0016A; Supplier 1: Mouser; Supplier Part Number 1: 595-CD74HC251MT; Supplier 2: Digi-Key; Supplier Part Number 2: CD74HC251MT-ND; Output Type: CMOS; Bits(#): 2; Operating Temperature Range(C): -55 to 125; Type: 3-State Output; Code_JEDEC: MS-012 variation AC; ComponentLink1Description: Manufacturer URL; ComponentLink1URL: http://www.ti.com/; ComponentLink2Description: Datasheet; ComponentLink2URL: http://www.ti.com/lit/ds/symlink/cd74hc251.pdf; ComponentLink3Description: Package Specification; ComponentLink3URL: http://www.ti.com/lit/ml/mpds178g/mpds178g.pdf
footprint D0016A_N (SOIC, 16-Leads, Body 10x4mm, Pitch 1.27mm, IPC Medium Density)
footprint D0016A_M (SOIC, 16-Leads, Body 10x4mm, Pitch 1.27mm, IPC Low Density)
footprint D0016A_L (SOIC, 16-Leads, Body 10x4mm, Pitch 1.27mm, IPC High Density)
pins: 1 I3 (in), 2 I2 (in), 3 I1 (in), 4 I0 (in), 5 Y (hiz), 6 ~{Y} (hiz), 7 ~{OE} (in), 8 GND (power), 9 S2 (in), 10 S1 (in), 11 S0 (in), 12 I7 (in), 13 I6 (in), 14 I5 (in), 15 I4 (in), 16 VCC (power)

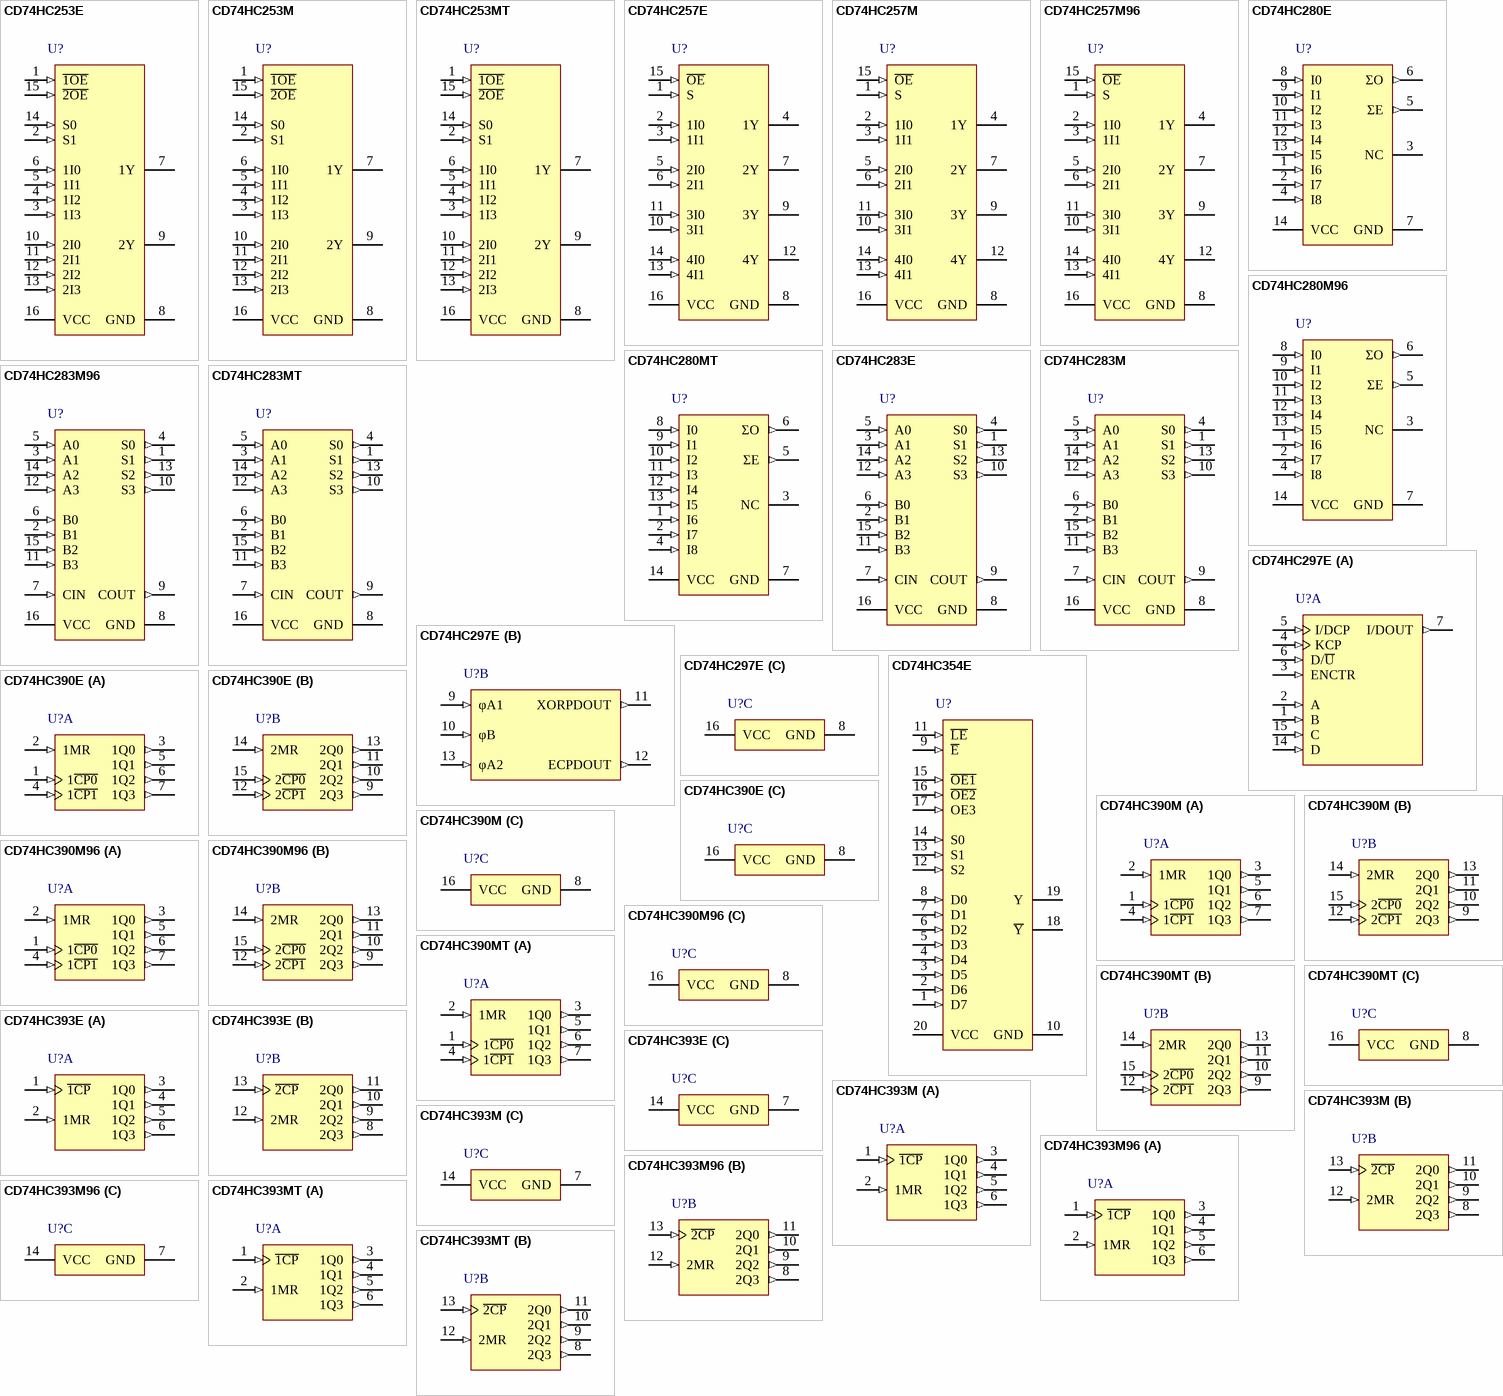
[diagram p13: symbols CD74HC253E to CD74HC393MT]